# Altium schematic symbol library RES,50m,1%,1W,PULSE,2010.Schlib: 1 symbol
Pins are listed as number, name and electrical type; pins without a type are passive.

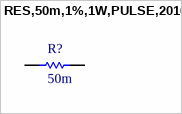
[diagram p0: symbol RES,50m,1%,1W,PULSE,2010]

## RES,50m,1%,1W,PULSE,2010
designator R?, comment 50m
50 mOhms ±1% 1W Chip Resistor 2010 (5025 Metric) Anti-Sulfur, Automotive AEC-Q200, Current Sense, Moisture Resistant, Pulse Withstanding Metal Element
pins: 1, 2